# EAGLE library part ISM330DHCXTR (library ISM330DHCX)
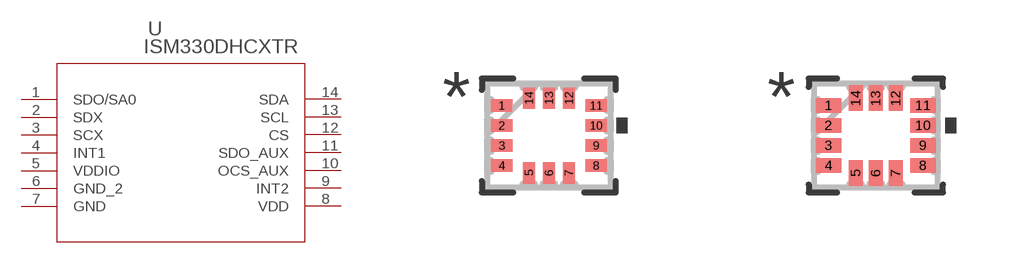
[diagram p0: symbol with the pads of QFN_DHCXTR_STM; footprints QFN_DHCXTR_STM, QFN_DHCXTR_STM-M]

Designator prefix U

## ISM330DHCXTR (BUILT_BY: EMA_Matt; COPYRIGHT: Copyright (C) 2018 Accelerated Designs. All rights reserved; DATASHEET: https://www.st.com/resource/en/datasheet/ism330dhcx.pdf; MANUFACTURER_PART_NUMBER: ISM330DHCXTR; SOURCELIBRARY: Add_to_database_2020-11-05; VENDOR: STMicroelectronics)  [QFN_DHCXTR_STM]
1  SDO/SA0  pas
2  SDX  pas
3  SCX  pas
4  INT1  in
5  VDDIO  pwr
6  GND_2  pas
7  GND  pas
8  VDD  pwr
9  INT2  in
10  OCS_AUX  pas
11  SDO_AUX  pas
12  CS  pas
13  SCL  pas
14  SDA  pas

## ISM330DHCXTRQFN_DHCXTR_STM-M (BUILT_BY: EMA_Matt; COPYRIGHT: Copyright (C) 2018 Accelerated Designs. All rights reserved; DATASHEET: https://www.st.com/resource/en/datasheet/ism330dhcx.pdf; MANUFACTURER_PART_NUMBER: ISM330DHCXTR; SOURCELIBRARY: Add_to_database_2020-11-05; VENDOR: STMicroelectronics)  [QFN_DHCXTR_STM-M]
Pads as for QFN_DHCXTR_STM

## ISM330DHCXTRQFN_DHCXTR_STM-L (BUILT_BY: EMA_Matt; COPYRIGHT: Copyright (C) 2018 Accelerated Designs. All rights reserved; DATASHEET: https://www.st.com/resource/en/datasheet/ism330dhcx.pdf; MANUFACTURER_PART_NUMBER: ISM330DHCXTR; SOURCELIBRARY: Add_to_database_2020-11-05; VENDOR: STMicroelectronics)  [QFN_DHCXTR_STM-L]
Pads as for QFN_DHCXTR_STM

## Footprint QFN_DHCXTR_STM (pad centres in mm)
smd 0.533 x 0.305: 1 -1.181,0.75; 2 -1.181,0.25; 3 -1.181,-0.25; 4 -1.181,-0.75; 8 1.181,-0.75; 9 1.181,-0.25; 10 1.181,0.25; 11 1.181,0.75
smd 0.305 x 0.533: 5 -0.5,-0.933; 6 0,-0.933; 7 0.5,-0.933; 12 0.5,0.933; 13 0,0.933; 14 -0.5,0.933

## Footprint QFN_DHCXTR_STM-M (pad centres in mm)
smd 0.635 x 0.356: 1 -1.181,0.75; 2 -1.181,0.25; 3 -1.181,-0.25; 4 -1.181,-0.75; 8 1.181,-0.75; 9 1.181,-0.25; 10 1.181,0.25; 11 1.181,0.75
smd 0.356 x 0.635: 5 -0.5,-0.933; 6 0,-0.933; 7 0.5,-0.933; 12 0.5,0.933; 13 0,0.933; 14 -0.5,0.933

## Footprint QFN_DHCXTR_STM-L (pad centres in mm)
smd 0.432 x 0.254: 1 -1.181,0.75; 2 -1.181,0.25; 3 -1.181,-0.25; 4 -1.181,-0.75; 8 1.181,-0.75; 9 1.181,-0.25; 10 1.181,0.25; 11 1.181,0.75
smd 0.254 x 0.432: 5 -0.5,-0.933; 6 0,-0.933; 7 0.5,-0.933; 12 0.5,0.933; 13 0,0.933; 14 -0.5,0.933